# Altium footprint library PcbLib1.PcbLib: 2 footprints
Each footprint in its own frame and in the unit in brackets; x right, y up, seen from the top. Pads: shape width x height; smd on the part's side, far side on the other; paste and mask are expansions set on the pad; w line width, h text height; cw(c..) or ccw(c..) is an arc to the next point about the centre after c.
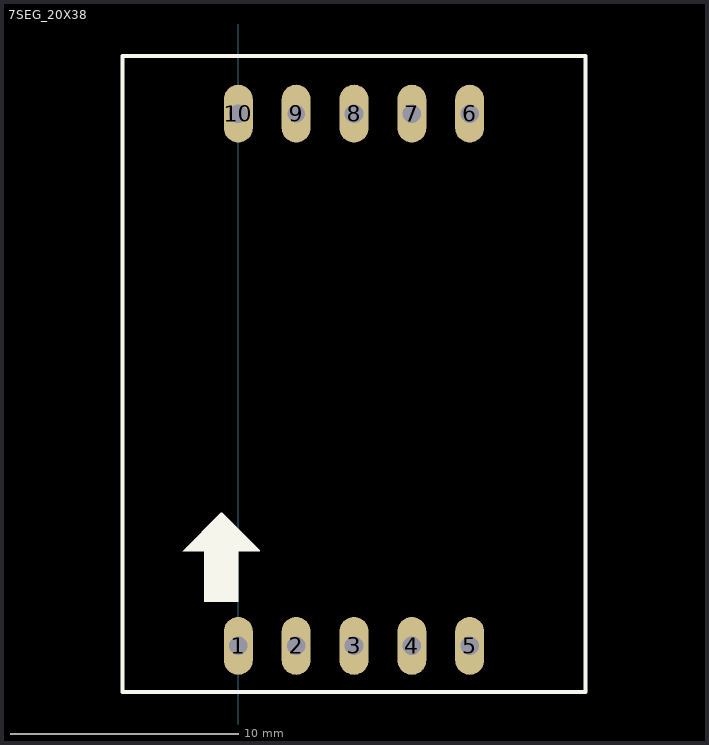
[diagram p0: the footprints below, top view; thin cyan lines are the x and y axes]

## 7SEG_20X38 [mil] "DIP 10 Leads; Body 29 x 41 mm; Pitch 0.5 mm"
height 300
pads (10):
  oval 50x100 hole 32: 1(0,480) 2(100,480) 3(200,480) 4(300,480) 5(400,480) 6(400,1400) 7(300,1400) 8(200,1400) 10(0,1400)
  oval 50x100 hole 30: 9(100,1400)
Top Overlay:
  region: -96,644 -30,710 -28,710 37,645 37,644 0,644 0,556 -59,556 -59,644
  lines w7: -200,400 600,400 600,1500 -200,1500 -200,400

## PCBComponent_1 [mil]